# Altium footprint library SSOP-24(4.0X8.6).PcbLib: 1 footprints
Each footprint in its own frame and in the unit in brackets; x right, y up, seen from the top. Pads: shape width x height; smd on the part's side, far side on the other; paste and mask are expansions set on the pad; w line width, h text height; cw(c..) or ccw(c..) is an arc to the next point about the centre after c.
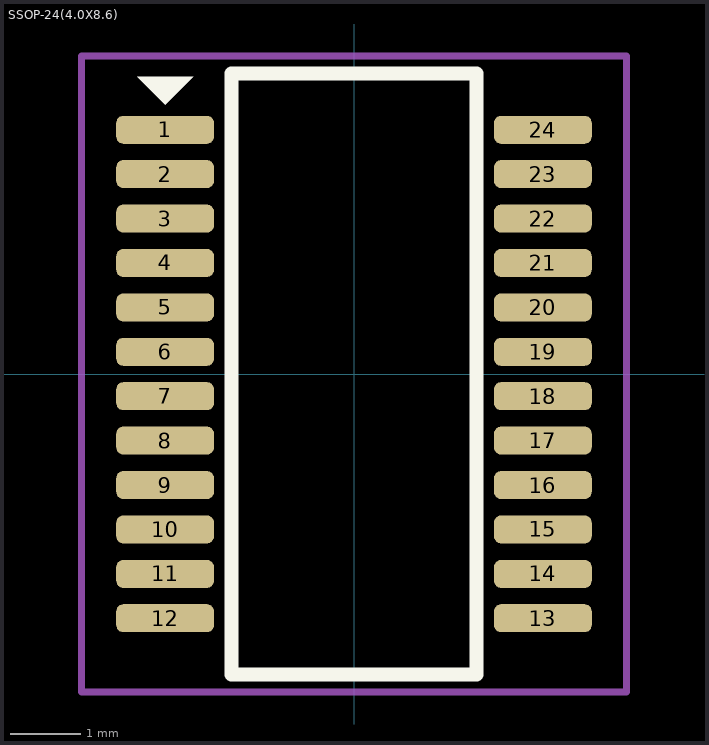
[diagram p0: the footprint, top view; thin cyan lines are the x and y axes]

## SSOP-24(4.0X8.6) [mm] "SOP, 24-Leads, Body 8.60x3.90mm, Pitch 0.64mm, IPC Medium Density"
height 1.8
pads (24):
  rrect50% 1.4x0.4 smd: 1(-2.7,3.492) 2(-2.7,2.857) 3(-2.7,2.222) 4(-2.7,1.587) 5(-2.7,0.953) 6(-2.7,0.318) 7(-2.7,-0.318) 8(-2.7,-0.953) 9(-2.7,-1.587) 10(-2.7,-2.222) 11(-2.7,-2.857) 12(-2.7,-3.492) 13(2.7,-3.492) 14(2.7,-2.857) 15(2.7,-2.222) 16(2.7,-1.587) 17(2.7,-0.953) 18(2.7,-0.318) 19(2.7,0.318) 20(2.7,0.953) 21(2.7,1.587) 22(2.7,2.222) 23(2.7,2.857) 24(2.7,3.492)
Top Overlay:
  region: -3.1,4.25 -2.3,4.25 -2.7,3.85
  lines w0.2: -1.75,-4.3 -1.75,4.3 1.75,4.3 1.75,-4.3 -1.75,-4.3
Top Courtyard:
  lines w0.1: -3.9,-4.55 -3.9,4.55 3.9,4.55 3.9,-4.55 -1.75,-4.55 -3.9,-4.55
3D body "SOP64P600X180-24N.step": height 1.8, standoff 0, extent -3,-4.3 3,4.3